# Altium schematic symbol library Mia_Training.SchLib: 27 symbols
Pins are listed as number, name and electrical type; pins without a type are passive.

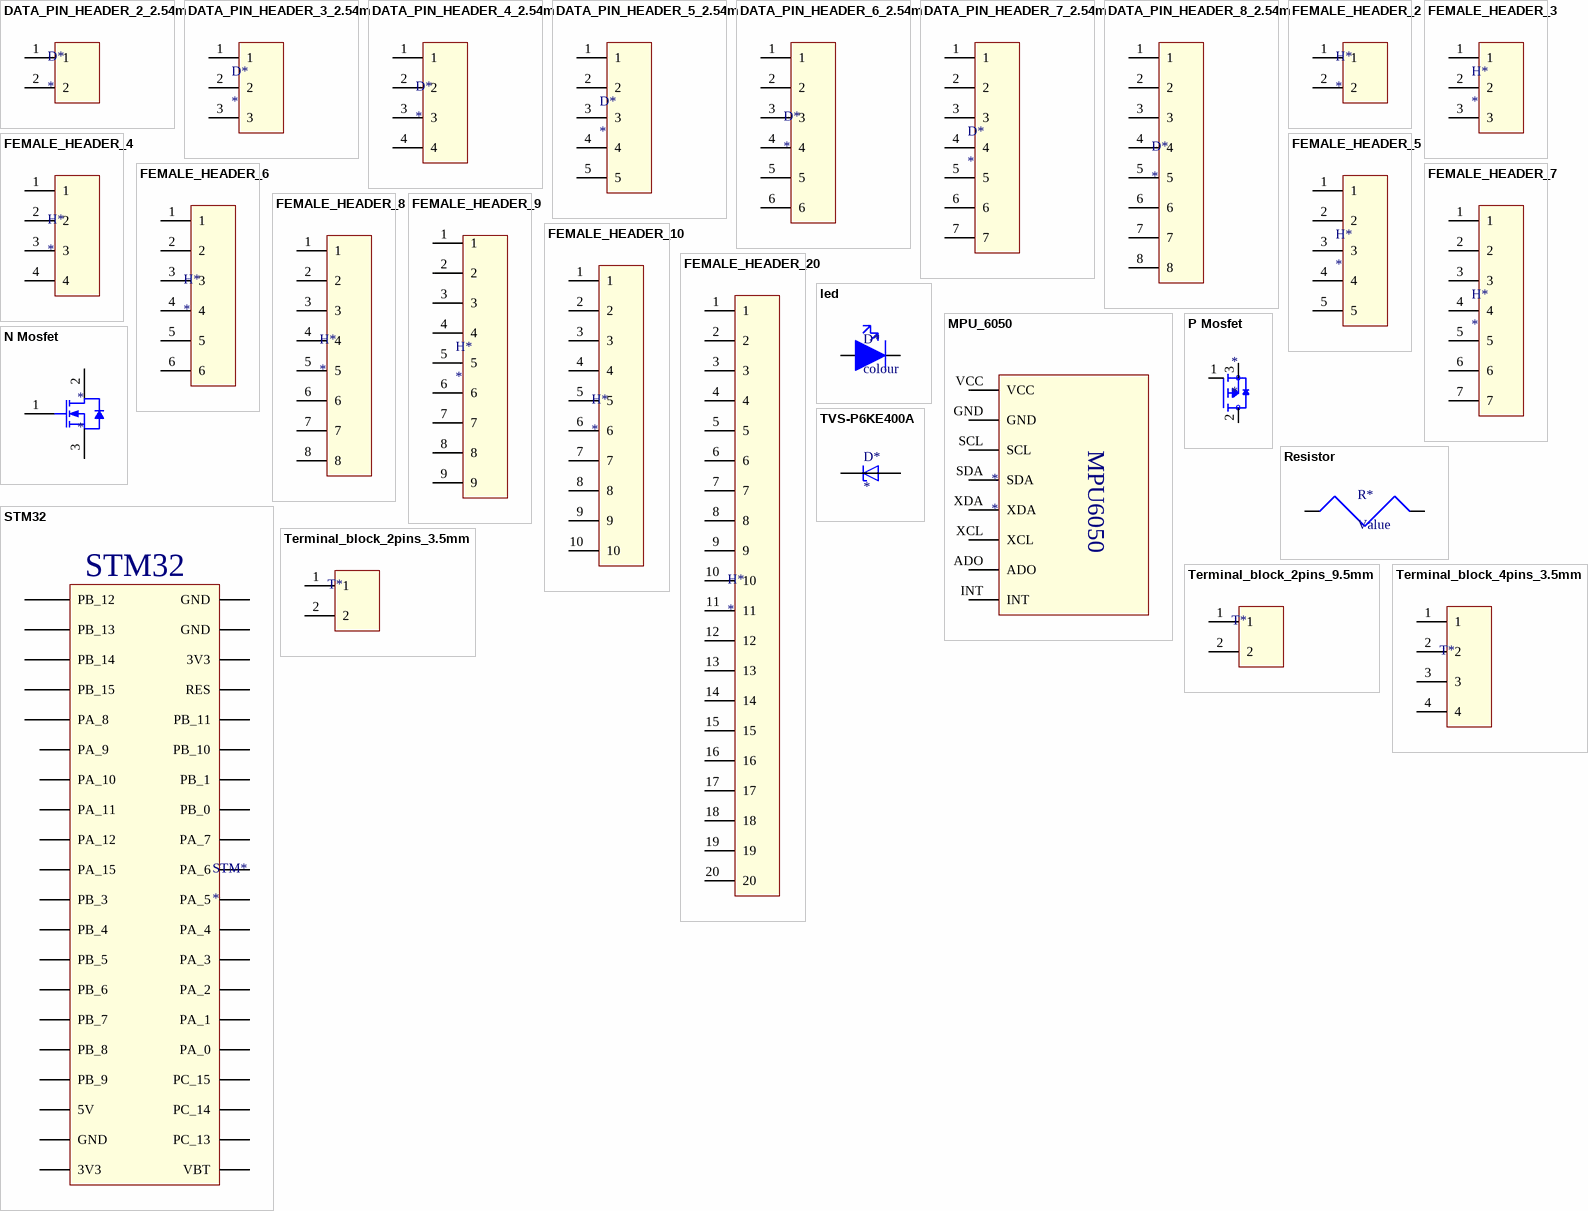
[diagram p0: symbols DATA_PIN_HEADER_2_2.54m to TVS-P6KE400A]

## DATA_PIN_HEADER_2_2.54m
designator D*
footprint DATA_PIN_HEADER_2_2.54m
pins: 1, 2

## DATA_PIN_HEADER_3_2.54m
designator D*
footprint DATA_PIN_HEADER_3_2.54m
pins: 1, 2, 3

## DATA_PIN_HEADER_4_2.54m
designator D*
footprint DATA_PIN_HEADER_4_2.54m
pins: 1, 2, 3, 4

## DATA_PIN_HEADER_5_2.54m
designator D*
footprint DATA_PIN_HEADER_5_2.54m
pins: 1, 2, 3, 4, 5

## DATA_PIN_HEADER_6_2.54m
designator D*
footprint DATA_PIN_HEADER_6_2.54m
pins: 1, 2, 3, 4, 5, 6

## DATA_PIN_HEADER_7_2.54m
designator D*
footprint DATA_PIN_HEADER_7_2.54
pins: 1, 2, 3, 4, 5, 6, 7

## DATA_PIN_HEADER_8_2.54m
designator D*
footprint DATA_PIN_HEADER_8_2.54m
pins: 1, 2, 3, 4, 5, 6, 7, 8

## FEMALE_HEADER_2
designator H*
footprint FEMALE_HEADER_2
pins: 1, 2

## FEMALE_HEADER_3
designator H*
footprint Female_Header_3
pins: 1, 2, 3

## FEMALE_HEADER_4
designator H*
footprint Female_Header_4
pins: 1, 2, 3, 4

## FEMALE_HEADER_5
designator H*
footprint Female_Header_5
pins: 1, 2, 3, 4, 5

## FEMALE_HEADER_6
designator H*
footprint Female_Header_6
pins: 1, 2, 3, 4, 5, 6

## FEMALE_HEADER_7
designator H*
footprint Female_Header_7
pins: 1, 2, 3, 4, 5, 6, 7

## FEMALE_HEADER_8
designator H*
footprint Female_Header_8
pins: 1, 2, 3, 4, 5, 6, 7, 8

## FEMALE_HEADER_9
designator H*
footprint Female_Header_9
pins: 1, 2, 3, 4, 5, 6, 7, 8, 9

## FEMALE_HEADER_10
designator H*
footprint FEMALE_HEADER_10
pins: 1, 2, 3, 4, 5, 6, 7, 8, 9, 10

## FEMALE_HEADER_20
designator H*
footprint Female_Header_20
pins: 1, 2, 3, 4, 5, 6, 7, 8, 9, 10, 11, 12, 13, 14, 15, 16, 17, 18, 19, 20

## led
designator D*, comment colour
footprint LED
pins: 1, 2

## MPU_6050
designator *
footprint MPU6050
pins: ADO, GND, INT, SCL, SDA, VCC, XCL, XDA
text: MPU6050

## N Mosfet
designator *
footprint Mosfet
pins: 1 GATE, 2 DRAIN, 3 Source

## P Mosfet
designator *
footprint Mosfet
pins: 1 G, 2 D, 3 S

## Resistor
designator R*, comment Value
footprint Resistor
pins: 1, 2

## STM32
designator STM*
footprint STM32
pins: 3V3, 3V3, 5V, GND, GND, GND, PA_0, PA_1, PA_2, PA_3, PA_4, PA_5, PA_6, PA_7, PA_8, PA_9, PA_10, PA_11, PA_12, PA_15, PB_0, PB_1, PB_3, PB_4, PB_5, PB_6, PB_7, PB_8, PB_9, PB_10, PB_11, PB_12, PB_13, PB_14, PB_15, PC_13, PC_14, PC_15, RES, VBT

## Terminal_block_2pins_3.5mm
designator T*
footprint Terminal_block_2pins_3.5mm
pins: 1, 2

## Terminal_block_2pins_9.5mm
designator T*
footprint Terminal_block_2pins_9.5mm
pins: 1, 2

## Terminal_block_4pins_3.5mm
designator T*
footprint Terminal_block_4pins_3.5mm
pins: 1, 2, 3, 4

## TVS-P6KE400A
designator D*
footprint TVS
pins: A, C